# EAGLE library part TEENSY3.2 (library teensy_3.2)
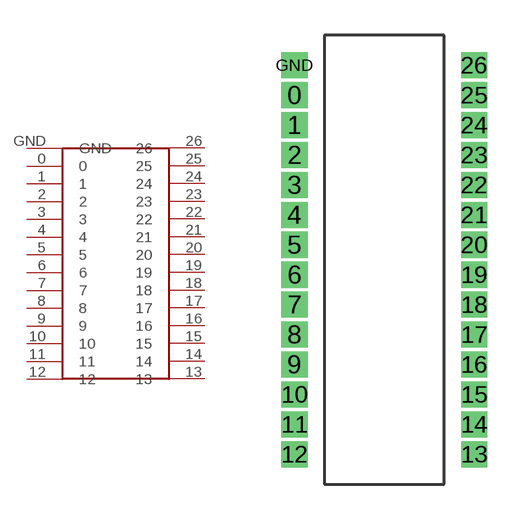
[diagram p0: symbol with the pads of TEENSY3.2; footprint TEENSY3.2]

Designator prefix -

## TEENSY3.2  [TEENSY3.2]
0  0
1  1
2  2
3  3
4  4
5  5
6  6
7  7
8  8
9  9
10  10
11  11
12  12
13  13
14  14
15  15
16  16
17  17
18  18
19  19
20  20
21  21
22  22
23  23
24  24
25  25
26  26
GND  GND

## Footprint TEENSY3.2 (pad centres in mm)
drill 0.6 square: 0 -3.81,6.35; 1 -3.81,5.08; 2 -3.81,3.81; 3 -3.81,2.54; 4 -3.81,1.27; 5 -3.81,0; 6 -3.81,-1.27; 7 -3.81,-2.54; 8 -3.81,-3.81; 9 -3.81,-5.08; 10 -3.81,-6.35; 11 -3.81,-7.62; 12 -3.81,-8.89; 13 3.81,-8.89; 14 3.81,-7.62; 15 3.81,-6.35; 16 3.81,-5.08; 17 3.81,-3.81; 18 3.81,-2.54; 19 3.81,-1.27; 20 3.81,0; 21 3.81,1.27; 22 3.81,2.54; 23 3.81,3.81; 24 3.81,5.08; 25 3.81,6.35; 26 3.81,7.62; GND -3.81,7.62